# Altium footprint library XC7K160T.PcbLib: 72 footprints (part 1 of 5)
Each footprint in its own frame and in the unit in brackets; x right, y up, seen from the top. Pads: shape width x height; smd on the part's side, far side on the other; paste and mask are expansions set on the pad; w line width, h text height; cw(c..) or ccw(c..) is an arc to the next point about the centre after c.
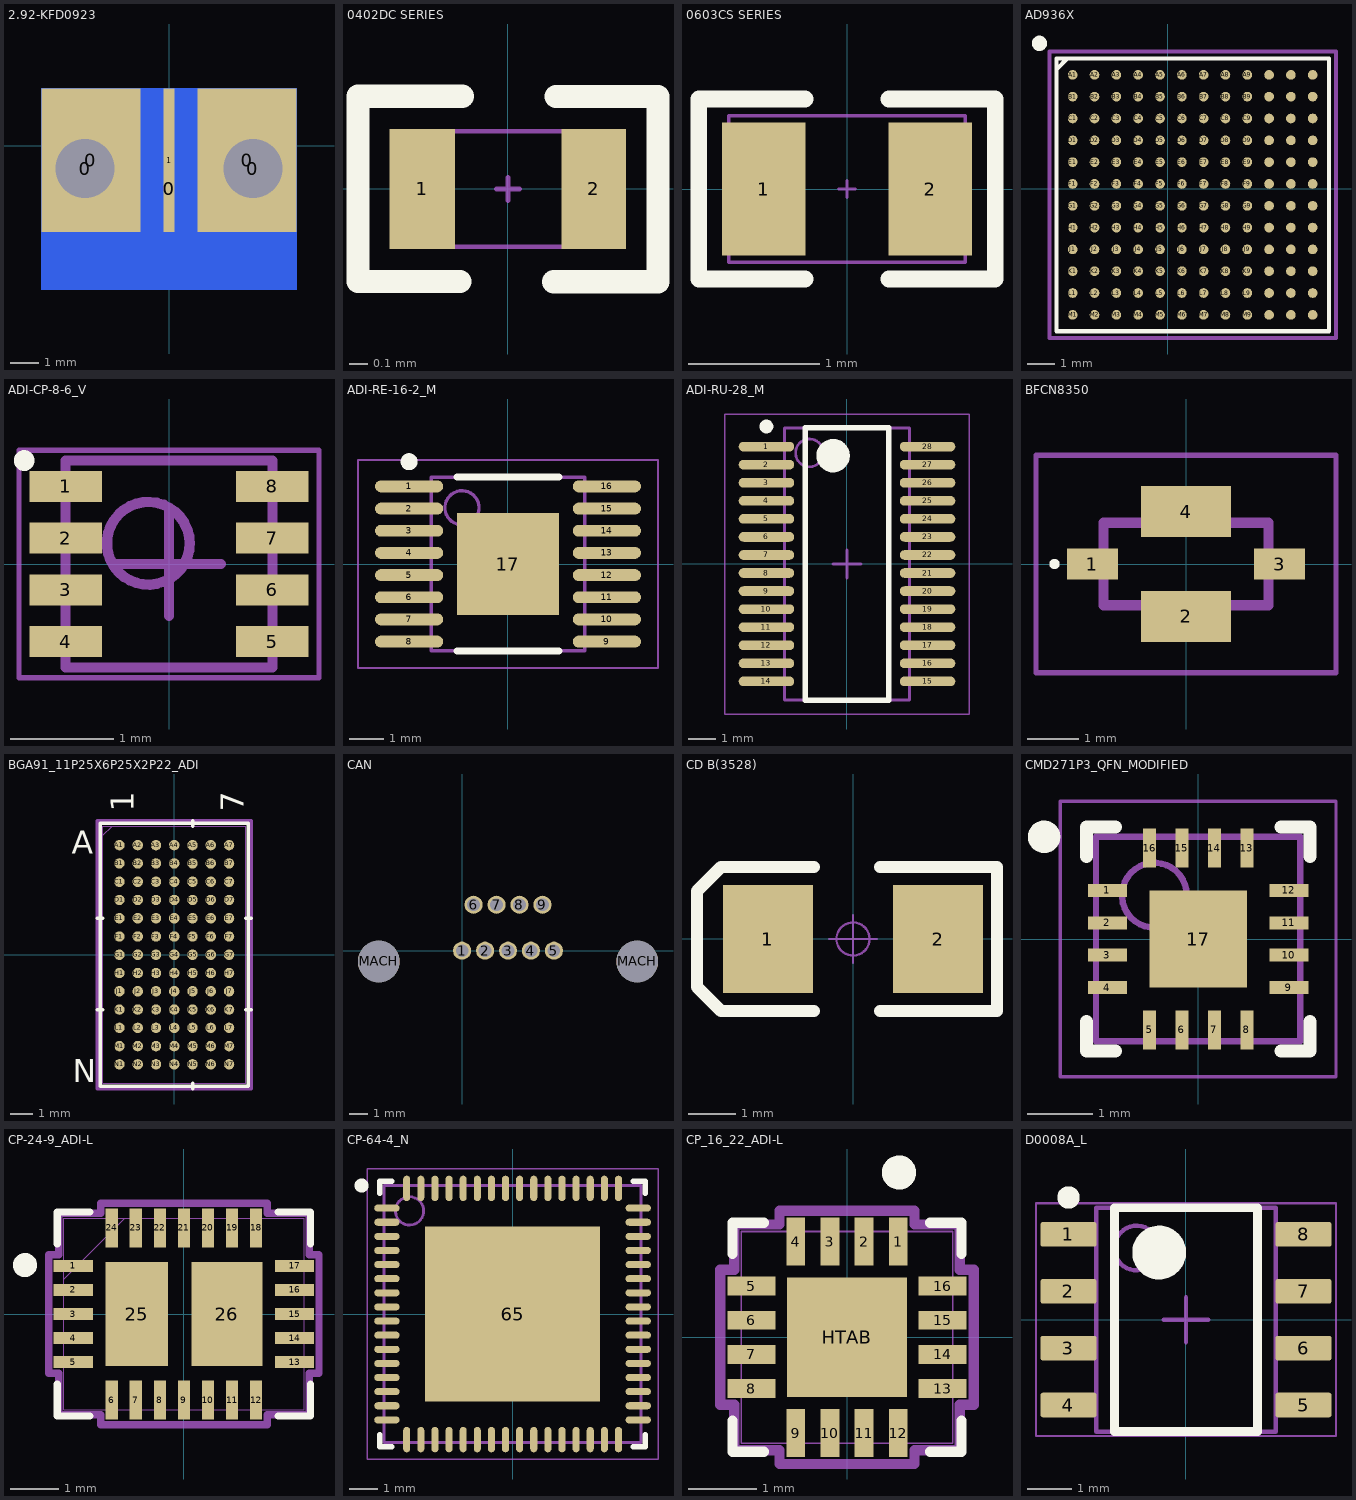
[diagram p0: the footprints below, top view; thin cyan lines are the x and y axes]

## 2.92-KFD0923 [mm]
pads (6):
  oval 2.56x2.54 hole 2.06: 0(-2.92,-0.79) 0(2.92,-0.79)
  rect 3.445x5 smd: 0(-2.722,-0.5) 0(2.722,-0.5)
  rect 8.89x7 smd far side: 0(0,-1.5)
  rect 0.366x5 smd: 1(0,-0.5)
3D body "2.92-KFD0923-外观模型.STEP": height 5.08, standoff -3.84, extent -4.77,-3.7 4.77,14.6

## 0402DC SERIES [mm] "Coilcraft Chip Inductor"
height 0.66
pads (2):
  rect 0.36x0.66 smd: 1(-0.47,0)
  rect 0.356x0.66 smd: 2(0.47,0)
Top Overlay:
  lines w0.127: -0.263,-0.508 -0.822,-0.508 -0.822,0.508 -0.251,0.508 ; 0.251,-0.508 0.822,-0.508 0.822,0.508 0.264,0.508
Mechanical 13:
  lines w0.025: -0.064,0 0.064,0 ; 0,-0.064 0,0.064
Mechanical 14:
  lines w0.025: -0.597,-0.318 0.597,-0.318 0.597,0.318 -0.597,0.318 -0.597,-0.318
3D body "Coilcraft-0402DC.sldprt": height 0.66, standoff 0, extent -0.563,-0.331 0.554,0.329

## 0603CS SERIES [mil] "Coilcraft Chip Inductor"
height 40
pads (2):
  rect 25x40 smd: 1(-25,0) 2(25,0)
Top Overlay:
  lines w5: -12.5,-27 -44.5,-27 -44.5,27 -12.5,27 ; 12.5,-27 44.5,-27 44.5,27 12.5,27
Mechanical 13:
  lines w1: -2.5,0 2.5,0 ; 0,-2.5 0,2.5
Mechanical 14:
  lines w1: -35.5,-22 35.5,-22 35.5,22 -35.5,22 -35.5,-22
3D body "0603CS.STEP": height 39.76, standoff -0.94, extent -35.51,-22.08 35.51,22.09

## AD936X [mil]
pads (144):
  round 14 smd: A1(-137.01,164.51) A2(-105.51,164.51) A3(-74.02,164.51) A4(-42.52,164.51) A5(-11.02,164.51) A6(20.47,164.51) A7(51.97,164.51) A8(83.46,164.51) A9(114.96,164.51) A10(146.46,164.51) A11(177.95,164.51) A12(209.45,164.51) B1(-137.01,133.01) B2(-105.51,133.01) B3(-74.02,133.01) B4(-42.52,133.01) B5(-11.02,133.01) B6(20.47,133.01) B7(51.97,133.01) B8(83.46,133.01) B9(114.96,133.01) B10(146.46,133.01) B11(177.95,133.01) B12(209.45,133.01) C1(-137.01,101.52) C2(-105.51,101.52) C3(-74.02,101.52) C4(-42.52,101.52) C5(-11.02,101.52) C6(20.47,101.52) C7(51.97,101.52) C8(83.46,101.52) C9(114.96,101.52) C10(146.46,101.52) C11(177.95,101.52) C12(209.45,101.52) D1(-137.01,70.02) D2(-105.51,70.02) D3(-74.02,70.02) D4(-42.52,70.02) D5(-11.02,70.02) D6(20.47,70.02) D7(51.97,70.02) D8(83.46,70.02) D9(114.96,70.02) D10(146.46,70.02) D11(177.95,70.02) D12(209.45,70.02) E1(-137.01,38.52) E2(-105.51,38.52) E3(-74.02,38.52) E4(-42.52,38.52) E5(-11.02,38.52) E6(20.47,38.52) E7(51.97,38.52) E8(83.46,38.52) E9(114.96,38.52) E10(146.46,38.52) E11(177.95,38.52) E12(209.45,38.52) F1(-137.01,7.03) F2(-105.51,7.03) F3(-74.02,7.03) F4(-42.52,7.03) F5(-11.02,7.03) F6(20.47,7.03) F7(51.97,7.03) F8(83.46,7.03) F9(114.96,7.03) F10(146.46,7.03) F11(177.95,7.03) F12(209.45,7.03) G1(-137.01,-24.47) G2(-105.51,-24.47) G3(-74.02,-24.47) G4(-42.52,-24.47) G5(-11.02,-24.47) G6(20.47,-24.47) G7(51.97,-24.47) G8(83.46,-24.47) G9(114.96,-24.47) G10(146.46,-24.47) G11(177.95,-24.47) G12(209.45,-24.47) H1(-137.01,-55.96) H2(-105.51,-55.96) H3(-74.02,-55.96) H4(-42.52,-55.96) H5(-11.02,-55.96) H6(20.47,-55.96) H7(51.97,-55.96) H8(83.46,-55.96) H9(114.96,-55.96) H10(146.46,-55.96) H11(177.95,-55.96) H12(209.45,-55.96) J1(-137.01,-87.46) J2(-105.51,-87.46) J3(-74.02,-87.46) J4(-42.52,-87.46) J5(-11.02,-87.46) J6(20.47,-87.46) J7(51.97,-87.46) J8(83.46,-87.46) J9(114.96,-87.46) J10(146.46,-87.46) J11(177.95,-87.46) J12(209.45,-87.46) K1(-137.01,-118.96) K2(-105.51,-118.96) K3(-74.02,-118.96) K4(-42.52,-118.96) K5(-11.02,-118.96) K6(20.47,-118.96) K7(51.97,-118.96) K8(83.46,-118.96) K9(114.96,-118.96) K10(146.46,-118.96) K11(177.95,-118.96) K12(209.45,-118.96) L1(-137.01,-150.45) L2(-105.51,-150.45) L3(-74.02,-150.45) L4(-42.52,-150.45) L5(-11.02,-150.45) L6(20.47,-150.45) L7(51.97,-150.45) L8(83.46,-150.45) L9(114.96,-150.45) L10(146.46,-150.45) L11(177.95,-150.45) L12(209.45,-150.45) M1(-137.01,-181.95) M2(-105.51,-181.95) M3(-74.02,-181.95) M4(-42.52,-181.95) M5(-11.02,-181.95) M6(20.47,-181.95) M7(51.97,-181.95) M8(83.46,-181.95) M9(114.96,-181.95) M10(146.46,-181.95) M11(177.95,-181.95) M12(209.45,-181.95)
Top Overlay:
  circle w12: c-185,210 r5
  lines w6: -160.63,172.38 -144.88,188.13 ; -160.63,-205.57 -160.63,188.13 233.07,188.13 233.07,-205.57 -160.63,-205.57
Top Courtyard:
  lines w1: -160.63,172.38 -144.88,188.13 ; -160.63,-205.57 -160.63,188.13 233.07,188.13 233.07,-205.57 -160.63,-205.57
  lines w6: -170.63,-215.57 243.07,-215.57 243.07,198.13 -170.63,198.13 -170.63,-215.57
3D body: height 39.37, standoff 0, extent -161.84,-206.33 233.34,188.61

## ADI-CP-8-6_V [mm]
pads (8):
  rect 0.7x0.3 smd mask+0.102: 1(-1,0.75) 2(-1,0.25) 3(-1,-0.25) 4(-1,-0.75) 5(1,-0.75) 6(1,-0.25) 7(1,0.25) 8(1,0.75)
Top Overlay:
  circle w0.1: c-1.4,1 r0.05
Mechanical 13:
  circle w0.1: c-0.2,0.2 r0.4
  lines w0.1: -1,-1 -1,1 1,1 1,-1 -1,-1
Mechanical 15:
  lines w0.05: -1.45,-1.1 -1.45,1.1 1.45,1.1 1.45,-1.1 -1.45,-1.1
  lines w0.1: -0.5,0 0.5,0 ; 0,-0.5 0,0.5
3D body: height 0.65, standoff 0, extent -1,-1 1,1

## ADI-RE-16-2_M [mm]
pads (17):
  oval 2x0.35 smd: 1(-2.9,2.275) 2(-2.9,1.625) 3(-2.9,0.975) 4(-2.9,0.325) 5(-2.9,-0.325) 6(-2.9,-0.975) 7(-2.9,-1.625) 8(-2.9,-2.275) 9(2.9,-2.275) 10(2.9,-1.625) 11(2.9,-0.975) 12(2.9,-0.325) 13(2.9,0.325) 14(2.9,0.975) 15(2.9,1.625) 16(2.9,2.275)
  rect 3x3 smd paste-1.5: 17(0,0)
Top Overlay:
  circle w0.25: c-2.9,3 r0.125
  lines w0.2: -1.5,-2.55 1.5,-2.55 ; -1.5,2.55 1.5,2.55
Top Paste:
  rectangle: 0.1,-1.35 1.35,-0.1
  region: -0.1,-0.1 -1.35,-0.1 -1.35,-1.35 -0.1,-1.35
  region: -0.1,1.35 -1.35,1.35 -1.35,0.1 -0.1,0.1
  rectangle: 0.1,0.1 1.35,1.35
Mechanical 13:
  circle w0.1: c-1.35,1.65 r0.5
  lines w0.1: -2.25,-2.55 2.25,-2.55 2.25,2.55 -2.25,2.55 -2.25,-2.55
Mechanical 15:
  lines w0.05: -4.4,-3.05 4.4,-3.05 4.4,3.05 -4.4,3.05 -4.4,-3.05
  lines w0.1: -0.5,0 0.5,0 ; 0,-0.5 0,0.5
3D body: height 1.2, standoff 0.05, extent -2.25,-2.55 2.25,2.55

## ADI-RU-28_M [mm]
pads (28):
  oval 2x0.35 smd: 1(-2.9,4.225) 2(-2.9,3.575) 3(-2.9,2.925) 4(-2.9,2.275) 5(-2.9,1.625) 6(-2.9,0.975) 7(-2.9,0.325) 8(-2.9,-0.325) 9(-2.9,-0.975) 10(-2.9,-1.625) 11(-2.9,-2.275) 12(-2.9,-2.925) 13(-2.9,-3.575) 14(-2.9,-4.225) 15(2.9,-4.225) 16(2.9,-3.575) 17(2.9,-2.925) 18(2.9,-2.275) 19(2.9,-1.625) 20(2.9,-0.975) 21(2.9,-0.325) 22(2.9,0.325) 23(2.9,0.975) 24(2.9,1.625) 25(2.9,2.275) 26(2.9,2.925) 27(2.9,3.575) 28(2.9,4.225)
Top Overlay:
  circle w0.25: c-2.9,4.95 r0.125
  circle w0.6: c-0.5,3.9 r0.3
  lines w0.2: -1.5,-4.9 -1.5,4.9 1.5,4.9 1.5,-4.9 -1.5,-4.9
Mechanical 13:
  circle w0.1: c-1.35,4 r0.5
  lines w0.1: -2.25,-4.9 -2.25,4.9 2.25,4.9 2.25,-4.9 -2.25,-4.9
Mechanical 15:
  lines w0.05: -4.4,-5.4 -4.4,5.4 4.4,5.4 4.4,-5.4 -4.4,-5.4
  lines w0.1: -0.5,0 0.5,0 ; 0,-0.5 0,0.5
3D body: height 1.2, standoff 0.05, extent -2.25,-4.9 2.25,4.9

## BFCN8350 [mm]
pads (4):
  rect 0.99x0.61 smd: 1(-1.815,0) 3(1.815,0)
  rect 1.75x0.99 smd: 2(0,-1.015) 4(0,1.015)
Top Overlay:
  lines w0.1: -2.6,0 cw(c-2.55,0) -2.5,0 cw(c-2.55,0) -2.6,0
Mechanical 13:
  lines w0.2: -1.6,-0.8 1.6,-0.8 1.6,0.8 -1.6,0.8 -1.6,-0.8
Mechanical 15:
  lines w0.1: -2.91,-2.11 2.91,-2.11 2.91,2.11 -2.91,2.11 -2.91,-2.11
3D body "BFCN-8350+.stp": height 1.08, standoff 0, extent -2.249,-1.411 2.249,1.411

## BGA91_11P25X6P25X2P22_ADI [mil]
pads (91):
  round 18 smd paste+0 mask+0: A1(-94.49,188.98) A2(-62.99,188.98) A3(-31.5,188.98) A4(0,188.98) A5(31.5,188.98) A6(62.99,188.98) A7(94.49,188.98) B1(-94.49,157.48) B2(-62.99,157.48) B3(-31.5,157.48) B4(0,157.48) B5(31.5,157.48) B6(62.99,157.48) B7(94.49,157.48) C1(-94.49,125.98) C2(-62.99,125.98) C3(-31.5,125.98) C4(0,125.98) C5(31.5,125.98) C6(62.99,125.98) C7(94.49,125.98) D1(-94.49,94.49) D2(-62.99,94.49) D3(-31.5,94.49) D4(0,94.49) D5(31.5,94.49) D6(62.99,94.49) D7(94.49,94.49) E1(-94.49,62.99) E2(-62.99,62.99) E3(-31.5,62.99) E4(0,62.99) E5(31.5,62.99) E6(62.99,62.99) E7(94.49,62.99) F1(-94.49,31.5) F2(-62.99,31.5) F3(-31.5,31.5) F4(0,31.5) F5(31.5,31.5) F6(62.99,31.5) F7(94.49,31.5) G1(-94.49,0) G2(-62.99,0) G3(-31.5,0) G4(0,0) G5(31.5,0) G6(62.99,0) G7(94.49,0) H1(-94.49,-31.5) H2(-62.99,-31.5) H3(-31.5,-31.5) H4(0,-31.5) H5(31.5,-31.5) H6(62.99,-31.5) H7(94.49,-31.5) J1(-94.49,-62.99) J2(-62.99,-62.99) J3(-31.5,-62.99) J4(0,-62.99) J5(31.5,-62.99) J6(62.99,-62.99) J7(94.49,-62.99) K1(-94.49,-94.49) K2(-62.99,-94.49) K3(-31.5,-94.49) K4(0,-94.49) K5(31.5,-94.49) K6(62.99,-94.49) K7(94.49,-94.49) L1(-94.49,-125.98) L2(-62.99,-125.98) L3(-31.5,-125.98) L4(0,-125.98) L5(31.5,-125.98) L6(62.99,-125.98) L7(94.49,-125.98) M1(-94.49,-157.48) M2(-62.99,-157.48) M3(-31.5,-157.48) M4(0,-157.48) M5(31.5,-157.48) M6(62.99,-157.48) M7(94.49,-157.48) N1(-94.49,-188.98) N2(-62.99,-188.98) N3(-31.5,-188.98) N4(0,-188.98) N5(31.5,-188.98) N6(62.99,-188.98) N7(94.49,-188.98)
Top Overlay:
  lines w6: -133,-94.49 -123,-94.49 ; -133,62.99 -123,62.99 ; 31.5,-231.5 31.5,-221.5 ; 31.5,221.5 31.5,231.5 ; 123,-94.49 133,-94.49 ; 123,62.99 133,62.99 ; -128,-226.5 128,-226.5 128,226.5 -128,226.5 -128,-226.5
  text "A" at -177,174.51 h39.37
  text "N" at -175,-220 h39.37
  text "1" at -69.49,246.5 h39.37
  text "7" at 119.49,246.5 h39.37
Mechanical 13:
  lines w1: -123,205.75 -107.25,221.5 ; -123,-221.5 123,-221.5 123,221.5 -123,221.5 -123,-221.5
Mechanical 15:
  lines w6: -133,-231.5 -133,231.5 133,231.5 133,-231.5 -133,-231.5
3D body: height 10, standoff 0, extent 0,0 10,10
3D body "BGA91_11P25X6P25X2P22_ADI.step": height 95.12, standoff -0.02, extent -123.09,-222.21 122.89,220.79

## CAN [mm]
pads (11):
  round 1 hole 0.7: 1(0,0) 2(1.27,0) 3(2.54,0) 4(3.81,0) 5(5.08,0) 6(0.635,2.54) 7(1.905,2.54) 8(3.175,2.54) 9(4.445,2.54)
  round 2.3 hole 2.3 unplated: MACH(-4.61,-0.6) MACH(9.69,-0.6)
3D body "J30-9.stp": height 4.9, standoff -2.5, extent -7.36,-12.052 12.44,3.048

## CD B(3528) [mil]
pads (2):
  rect 75x90 smd: 1(-70.87,-0.01) 2(70.86,-0.01)
Top Overlay:
  lines w10: -32.51,-60 -110,-60 -130,-40 -130,40 -110,60 -32.51,60 ; 22.49,-60 120,-60 120,60 22.49,60
Mechanical 15:
  circle w1.97: c0,0 r13.78
  lines w1.97: -19.68,0 19.68,0 ; 0,-19.68 0,19.68
3D body "CD B(3528).STEP": height 74.84, standoff -0.3, extent -68.92,-55.12 68.91,55.11

## CMD271P3_QFN_MODIFIED [mm]
pads (17):
  rect 0.6x0.2 smd: 1(-1.4,0.75) 2(-1.4,0.25) 3(-1.4,-0.25) 4(-1.4,-0.75) 9(1.4,-0.75) 10(1.4,-0.25) 11(1.4,0.25) 12(1.4,0.75)
  rect 0.2x0.6 smd: 5(-0.75,-1.4) 6(-0.25,-1.4) 7(0.25,-1.4) 8(0.75,-1.4) 13(0.75,1.4) 14(0.25,1.4) 15(-0.25,1.4) 16(-0.75,1.4)
  rect 1.5x1.5 smd: 17(0,0)
Top Overlay:
  circle w0.25: c-2.375,1.575 r0.125
  lines w0.2: -1.725,-1.275 -1.725,-1.725 -1.275,-1.725 ; -1.725,1.275 -1.725,1.725 -1.275,1.725 ; 1.275,-1.725 1.725,-1.725 1.725,-1.275 ; 1.275,1.725 1.725,1.725 1.725,1.275
Mechanical 13:
  circle w0.1: c-0.675,0.675 r0.5
  lines w0.1: -1.575,-1.575 -1.575,1.575 1.575,1.575 1.575,-1.575 -1.575,-1.575
Mechanical 15:
  lines w0.05: -2.125,-2.125 -2.125,2.125 2.125,2.125 2.125,-2.125 -2.125,-2.125
  lines w0.1: -0.5,0 0.5,0 ; 0,-0.5 0,0.5
3D body: height 1, standoff 0, extent -1.575,-1.575 1.575,1.575

## CP-24-9_ADI-L [mil]
pads (26):
  rect 32x10 smd paste+0 mask+0: 1(-90.5,39.37) 2(-90.5,19.68) 3(-90.5,0) 4(-90.5,-19.68) 5(-90.5,-39.37) 13(90.5,-39.37) 14(90.5,-19.68) 15(90.5,0) 16(90.5,19.68) 17(90.5,39.37)
  rect 10x32 smd paste+0 mask+0: 6(-59.06,-70.5) 7(-39.37,-70.5) 8(-19.68,-70.5) 9(0,-70.5) 10(19.68,-70.5) 11(39.37,-70.5) 12(59.06,-70.5) 18(59.06,70.5) 19(39.37,70.5) 20(19.68,70.5) 21(0,70.5) 22(-19.68,70.5) 23(-39.37,70.5) 24(-59.06,70.5)
  rect 51x85 smd paste+0 mask+0: 25(-38.58,0)
  rect 58x85 smd paste+0 mask+0: 26(35.24,0)
Top Overlay:
  circle w9.84: c-130,40 r4.92
  lines w6: -103.5,-57.47 -103.5,-83.5 -77.16,-83.5 ; -103.5,57.47 -103.5,83.5 -77.16,83.5 ; 77.16,-83.5 103.5,-83.5 103.5,-57.47 ; 77.16,83.5 103.5,83.5 103.5,57.47
Mechanical 13:
  lines w1: -98.5,28.5 -48.5,78.5 ; -98.5,-78.5 98.5,-78.5 98.5,78.5 -98.5,78.5 -98.5,-78.5 ; -98.5,-45.37 -98.5,-33.37 -98.5,-45.37 ; -98.5,-25.68 -98.5,-13.69 -98.5,-25.68 ; -98.5,-6 -98.5,6 -98.5,-6 ; -98.5,13.69 -98.5,25.68 -98.5,13.69 ; -98.5,33.37 -98.5,45.37 -98.5,33.37 ; -65.06,-78.5 -53.06,-78.5 -65.06,-78.5 ; -65.06,78.5 -53.06,78.5 -65.06,78.5 ; -45.37,-78.5 -33.37,-78.5 -45.37,-78.5 ; -45.37,78.5 -33.37,78.5 -45.37,78.5 ; -25.68,-78.5 -13.69,-78.5 -25.68,-78.5 ; -25.68,78.5 -13.69,78.5 -25.68,78.5 ; -6,-78.5 6,-78.5 -6,-78.5 ; -6,78.5 6,78.5 -6,78.5 ; 13.69,-78.5 25.68,-78.5 13.69,-78.5 ; 13.69,78.5 25.68,78.5 13.69,78.5 ; 33.37,-78.5 45.37,-78.5 33.37,-78.5 ; 33.37,78.5 45.37,78.5 33.37,78.5 ; 53.06,-78.5 65.06,-78.5 53.06,-78.5 ; 53.06,78.5 65.06,78.5 53.06,78.5 ; 98.5,-45.37 98.5,-33.37 98.5,-45.37 ; 98.5,-25.68 98.5,-13.69 98.5,-25.68 ; 98.5,-6 98.5,6 98.5,-6 ; 98.5,13.69 98.5,25.68 98.5,13.69 ; 98.5,33.37 98.5,45.37 98.5,33.37
Mechanical 15:
  lines w6: -110.5,-48.37 -102.5,-48.37 -102.5,-82.5 -68.06,-82.5 -68.06,-90.5 68.06,-90.5 68.06,-82.5 102.5,-82.5 102.5,-48.37 110.5,-48.37 110.5,48.37 102.5,48.37 102.5,82.5 68.06,82.5 68.06,90.5 -68.06,90.5 -68.06,82.5 -102.5,82.5 -102.5,48.37 -110.5,48.37 -110.5,-48.37
3D body "CP-24-9_ADI.step": height 39.09, standoff 0, extent -98.5,-78.5 98.5,78.5
3D body: height 10, standoff 0, extent -98.5,-78.5 98.51,78.51

## CP-64-4_N [mm]
pads (65):
  oval 0.9x0.25 smd: 1(-4.45,3.75) 2(-4.45,3.25) 3(-4.45,2.75) 4(-4.45,2.25) 5(-4.45,1.75) 6(-4.45,1.25) 7(-4.45,0.75) 8(-4.45,0.25) 9(-4.45,-0.25) 10(-4.45,-0.75) 11(-4.45,-1.25) 12(-4.45,-1.75) 13(-4.45,-2.25) 14(-4.45,-2.75) 15(-4.45,-3.25) 16(-4.45,-3.75) 33(4.45,-3.75) 34(4.45,-3.25) 35(4.45,-2.75) 36(4.45,-2.25) 37(4.45,-1.75) 38(4.45,-1.25) 39(4.45,-0.75) 40(4.45,-0.25) 41(4.45,0.25) 42(4.45,0.75) 43(4.45,1.25) 44(4.45,1.75) 45(4.45,2.25) 46(4.45,2.75) 47(4.45,3.25) 48(4.45,3.75)
  oval 0.25x0.9 smd: 17(-3.75,-4.45) 18(-3.25,-4.45) 19(-2.75,-4.45) 20(-2.25,-4.45) 21(-1.75,-4.45) 22(-1.25,-4.45) 23(-0.75,-4.45) 24(-0.25,-4.45) 25(0.25,-4.45) 26(0.75,-4.45) 27(1.25,-4.45) 28(1.75,-4.45) 29(2.25,-4.45) 30(2.75,-4.45) 31(3.25,-4.45) 32(3.75,-4.45) 49(3.75,4.45) 50(3.25,4.45) 51(2.75,4.45) 52(2.25,4.45) 53(1.75,4.45) 54(1.25,4.45) 55(0.75,4.45) 56(0.25,4.45) 57(-0.25,4.45) 58(-0.75,4.45) 59(-1.25,4.45) 60(-1.75,4.45) 61(-2.25,4.45) 62(-2.75,4.45) 63(-3.25,4.45) 64(-3.75,4.45)
  rect 6.2x6.2 smd: 65(0,0)
Top Overlay:
  circle w0.25: c-5.35,4.55 r0.125
  lines w0.2: -4.7,-4.275 -4.7,-4.7 -4.275,-4.7 ; -4.7,4.275 -4.7,4.7 -4.275,4.7 ; 4.275,-4.7 4.7,-4.7 4.7,-4.275 ; 4.275,4.7 4.7,4.7 4.7,4.275
Mechanical 13:
  circle w0.1: c-3.65,3.65 r0.5
  lines w0.1: -4.55,-4.55 4.55,-4.55 4.55,4.55 -4.55,4.55 -4.55,-4.55
Mechanical 15:
  lines w0.05: -5.15,-5.15 5.15,-5.15 5.15,5.15 -5.15,5.15 -5.15,-5.15
  lines w0.1: -0.5,0 0.5,0 ; 0,-0.5 0,0.5
3D body: height 1, standoff 0, extent -4.55,-4.55 4.55,4.55

## CP_16_22_ADI-L [mm]
pads (17):
  rect 0.275x0.703 smd paste+0 mask+0: 1(0.75,1.402) 2(0.25,1.402) 3(-0.25,1.402) 4(-0.75,1.402) 9(-0.75,-1.402) 10(-0.25,-1.402) 11(0.25,-1.402) 12(0.75,-1.402)
  rect 0.703x0.275 smd paste+0 mask+0: 5(-1.402,0.75) 6(-1.402,0.25) 7(-1.402,-0.25) 8(-1.402,-0.75) 13(1.402,-0.75) 14(1.402,-0.25) 15(1.402,0.25) 16(1.402,0.75)
  rect 1.75x1.75 smd paste+0 mask+0: HTAB(0,0)
Top Overlay:
  circle w0.25: c0.762,2.413 r0.125
  lines w0.152: -1.677,-1.22 -1.677,-1.677 -1.22,-1.677 ; -1.677,1.22 -1.677,1.677 -1.22,1.677 ; 1.22,-1.677 1.677,-1.677 1.677,-1.22 ; 1.22,1.677 1.677,1.677 1.677,1.22
Mechanical 13:
  lines w0.025: -1.55,-1.55 -1.55,1.55 1.55,1.55 1.55,-1.55 -1.55,-1.55 ; -1.55,-0.9 -1.55,-0.6 -1.55,-0.9 ; -1.55,-0.4 -1.55,-0.1 -1.55,-0.4 ; -1.55,0.1 -1.55,0.4 -1.55,0.1 ; -1.55,0.6 -1.55,0.9 -1.55,0.6 ; -0.9,-1.55 -0.6,-1.55 -0.9,-1.55 ; -0.9,1.55 -0.6,1.55 -0.9,1.55 ; -0.4,-1.55 -0.1,-1.55 -0.4,-1.55 ; -0.4,1.55 -0.1,1.55 -0.4,1.55 ; 0.1,-1.55 0.4,-1.55 0.1,-1.55 ; 0.1,1.55 0.4,1.55 0.1,1.55 ; 0.6,-1.55 0.9,-1.55 0.6,-1.55 ; 0.6,1.55 0.9,1.55 0.6,1.55 ; 1.55,-0.9 1.55,-0.6 1.55,-0.9 ; 1.55,-0.4 1.55,-0.1 1.55,-0.4 ; 1.55,0.1 1.55,0.4 1.55,0.1 ; 1.55,0.6 1.55,0.9 1.55,0.6
Mechanical 15:
  lines w0.152: -1.855,-0.989 -1.855,0.989 -1.652,0.989 -1.652,1.652 -0.989,1.652 -0.989,1.855 0.989,1.855 0.989,1.652 1.652,1.652 1.652,0.989 1.855,0.989 1.855,-0.989 1.652,-0.989 1.652,-1.652 0.989,-1.652 0.989,-1.855 -0.989,-1.855 -0.989,-1.652 -1.652,-1.652 -1.652,-0.989 -1.855,-0.989
3D body: height 0.25, standoff 0, extent 0,0 0.254,0.254
3D body "CP_16_22_ADI.step": height 0.8, standoff 0, extent -1.55,-1.55 1.55,1.55

## D0008A_L [mm]
pads (8):
  rrect18% 1.25x0.55 smd: 1(-2.625,1.905) 2(-2.625,0.635) 3(-2.625,-0.635) 4(-2.625,-1.905) 5(2.625,-1.905) 6(2.625,-0.635) 7(2.625,0.635) 8(2.625,1.905)
Top Overlay:
  circle w0.6: c-0.6,1.5 r0.3
  circle w0.25: c-2.625,2.73 r0.125
  lines w0.2: -1.6,-2.5 1.6,-2.5 1.6,2.5 -1.6,2.5 -1.6,-2.5
Mechanical 13:
  circle w0.1: c-1.1,1.6 r0.5
  lines w0.1: -2,-2.5 2,-2.5 2,2.5 -2,2.5 -2,-2.5
Mechanical 15:
  lines w0.05: -3.35,-2.6 3.35,-2.6 3.35,2.6 -3.35,2.6 -3.35,-2.6
  lines w0.1: -0.5,0 0.5,0 ; 0,-0.5 0,0.5
3D body "SOIC-8akaD0008AakaM08A.stp": height 1.63, standoff 0, extent -3,-2.45 3,2.45